# EAGLE library part SKAARDUINO_HEADER (library SKAARHOJ)
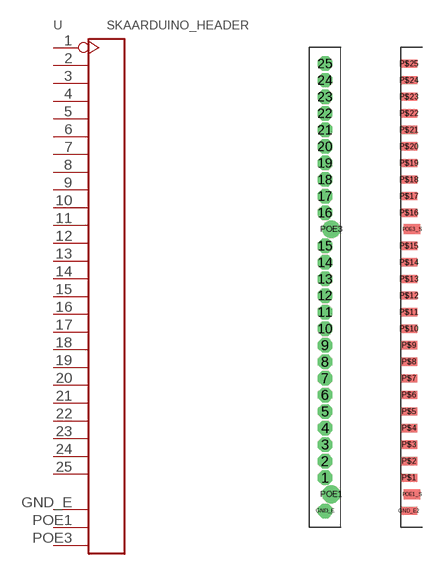
[diagram p60: symbol with the pads of SKAARDUINO_PTH_HEADER; footprints SKAARDUINO_PTH_HEADER, SKAARDUINO_SMD_HEADER]

Designator prefix -

## SKAARDUINO_HEADER  [SKAARDUINO_PTH_HEADER]
1  1
2  2
3  3
4  4
5  5
6  6
7  7
8  8
9  9
10  10
11  11
12  12
13  13
14  14
15  15
16  16
17  17
18  18
19  19
20  20
21  21
22  22
23  23
24  24
25  25
GND_E  26
POE1  27
POE3  28

## SKAARDUINO_HEADERSMD  [SKAARDUINO_SMD_HEADER]
GND_E2  26
P$1  1
P$2  2
P$3  3
P$4  4
P$5  5
P$6  6
P$7  7
P$8  8
P$9  9
P$10  10
P$11  11
P$12  12
P$13  13
P$14  14
P$15  15
P$16  16
P$17  17
P$18  18
P$19  19
P$20  20
P$21  21
P$22  22
P$23  23
P$24  24
P$25  25
POE1_S  27
POE3_S  28

## SKAARDUINO_HEADERPTH+SMD  [SKAARDUINO_PTH_SMD_HEADER]
1  1
2  2
3  3
4  4
5  5
6  6
7  7
8  8
9  9
10  10
11  11
12  12
13  13
14  14
15  15
16  16
17  17
18  18
19  19
20  20
21  21
22  22
23  23
24  24
25  25
GND_E  26
POE1_S  27
POE3_S  28

## SKAARDUINO_HEADERPTH+SMD2  [SKAARDUINO_PTH_SMD2_HEADER]
Pads as for SKAARDUINO_PTH_HEADER

## SKAARDUINO_HEADERPTH2  [SKAARDUINO_PTH_HEADER2]
Pads as for SKAARDUINO_PTH_HEADER

## Footprint SKAARDUINO_PTH_HEADER (pad centres in mm)
drill 0.6 pad 1.016 octagon: 1 -1.75,3.81; 2 -1.75,5.08; 3 -1.75,6.35; 4 -1.75,7.62; 5 -1.75,8.89; 6 -1.75,10.16; 7 -1.75,11.43; 8 -1.75,12.7; 9 -1.75,13.97; 10 -1.75,15.24; 11 -1.75,16.51; 12 -1.75,17.78; 13 -1.75,19.05; 14 -1.75,20.32; 15 -1.75,21.59; 16 -1.75,24.13; 17 -1.75,25.4; 18 -1.75,26.67; 19 -1.75,27.94; 20 -1.75,29.21; 21 -1.75,30.48; 22 -1.75,31.75; 23 -1.75,33.02; 24 -1.75,34.29; 25 -1.75,35.56; GND_E -1.75,1.27
drill 0.85 pad 1.116: POE1 -1.27,2.54; POE3 -1.27,22.86

## Footprint SKAARDUINO_SMD_HEADER (pad centres in mm)
smd 1.27 x 0.635: GND_E2 0.635,1.27; P$1 0.635,3.81; P$2 0.635,5.08; P$3 0.635,6.35; P$4 0.635,7.62; P$5 0.635,8.89; P$6 0.635,10.16; P$7 0.635,11.43; P$8 0.635,12.7; P$9 0.635,13.97; P$10 0.635,15.24; P$11 0.635,16.51; P$12 0.635,17.78; P$13 0.635,19.05; P$14 0.635,20.32; P$15 0.635,21.59; P$16 0.635,24.13; P$17 0.635,25.4; P$18 0.635,26.67; P$19 0.635,27.94; P$20 0.635,29.21; P$21 0.635,30.48; P$22 0.635,31.75; P$23 0.635,33.02; P$24 0.635,34.29; P$25 0.635,35.56
smd 1.27 x 0.762: POE1_S 0.889,2.54; POE3_S 0.889,22.86

## Footprint SKAARDUINO_PTH_SMD_HEADER (pad centres in mm)
drill 0.6 pad 1.016 octagon: 1 0.79,3.81; 2 0.79,5.08; 3 0.79,6.35; 4 0.79,7.62; 5 0.79,8.89; 6 0.79,10.16; 7 0.79,11.43; 8 0.79,12.7; 9 0.79,13.97; 10 0.79,15.24; 11 0.79,16.51; 12 0.79,17.78; 13 0.79,19.05; 14 0.79,20.32; 15 0.79,21.59; 16 0.79,24.13; 17 0.79,25.4; 18 0.79,26.67; 19 0.79,27.94; 20 0.79,29.21; 21 0.79,30.48; 22 0.79,31.75; 23 0.79,33.02; 24 0.79,34.29; 25 0.79,35.56; GND_E 0.79,1.27
smd 1.27 x 0.635: GND_E2 0.254,1.27; P$1 0.254,3.81; P$2 0.254,5.08; P$3 0.254,6.35; P$4 0.254,7.62; P$5 0.254,8.89; P$6 0.254,10.16; P$7 0.254,11.43; P$8 0.254,12.7; P$9 0.254,13.97; P$10 0.254,15.24; P$11 0.254,16.51; P$12 0.254,17.78; P$13 0.254,19.05; P$14 0.254,20.32; P$15 0.254,21.59; P$16 0.254,24.13; P$17 0.254,25.4; P$18 0.254,26.67; P$19 0.254,27.94; P$20 0.254,29.21; P$21 0.254,30.48; P$22 0.254,31.75; P$23 0.254,33.02; P$24 0.254,34.29; P$25 0.254,35.56; POE1_S 0.254,2.54; POE3_S 0.254,22.86

## Footprint SKAARDUINO_PTH_SMD2_HEADER (pad centres in mm)
drill 0.6 pad 1.016 octagon: 1 -1.25,3.81; 2 -1.25,5.08; 3 -1.25,6.35; 4 -1.25,7.62; 5 -1.25,8.89; 6 -1.25,10.16; 7 -1.25,11.43; 8 -1.25,12.7; 9 -1.25,13.97; 10 -1.25,15.24; 11 -1.25,16.51; 12 -1.25,17.78; 13 -1.25,19.05; 14 -1.25,20.32; 15 -1.25,21.59; 16 -1.25,24.13; 17 -1.25,25.4; 18 -1.25,26.67; 19 -1.25,27.94; 20 -1.25,29.21; 21 -1.25,30.48; 22 -1.25,31.75; 23 -1.25,33.02; 24 -1.25,34.29; 25 -1.25,35.56; GND_E -1.25,1.27
smd 2.2 x 0.635 bottom: P$1 -1.1,5.08; P$2 -1.1,6.35; P$4 -1.1,2.54; P$5 -1.1,1.27; P$6 -1.1,7.62; P$7 -1.1,8.89; P$8 -1.1,10.16; P$9 -1.1,11.43; P$10 -1.1,12.7; P$11 -1.1,13.97; P$12 -1.1,15.24; P$13 -1.1,16.51; P$14 -1.1,17.78; P$15 -1.1,19.05; P$16 -1.1,20.32; P$17 -1.1,21.59; P$18 -1.1,22.86; P$19 -1.1,24.13; P$20 -1.1,25.4; P$21 -1.1,26.67; P$22 -1.1,27.94; P$23 -1.1,29.21; P$24 -1.1,30.48; P$25 -1.1,31.75; P$26 -1.1,33.02; P$27 -1.1,34.29; P$28 -1.1,35.56; P$54 -1.1,3.81
smd 2.2 x 0.635: P$3 -1.1,3.81; P$29 -1.1,2.54; P$30 -1.1,1.27; P$31 -1.1,5.08; P$32 -1.1,6.35; P$33 -1.1,7.62; P$34 -1.1,8.89; P$35 -1.1,10.16; P$36 -1.1,11.43; P$37 -1.1,12.7; P$38 -1.1,13.97; P$39 -1.1,15.24; P$40 -1.1,16.51; P$41 -1.1,17.78; P$42 -1.1,19.05; P$43 -1.1,20.32; P$44 -1.1,21.59; P$45 -1.1,22.86; P$46 -1.1,24.13; P$47 -1.1,25.4; P$48 -1.1,26.67; P$49 -1.1,27.94; P$50 -1.1,29.21; P$51 -1.1,30.48; P$52 -1.1,31.75; P$53 -1.1,33.02; P$55 -1.1,34.29; P$56 -1.1,35.56
drill 0.6 pad 1.016 square: POE1 -1.25,2.54; POE3 -1.25,22.86

## Footprint SKAARDUINO_PTH_HEADER2 (pad centres in mm)
drill 0.6 pad 1.016 octagon: 1 -1.75,3.81; 2 -1.75,5.08; 3 -1.75,6.35; 4 -1.75,7.62; 5 -1.75,8.89; 6 -1.75,10.16; 7 -1.75,11.43; 8 -1.75,12.7; 9 -1.75,13.97; 10 -1.75,15.24; 11 -1.75,16.51; 12 -1.75,17.78; 13 -1.75,19.05; 14 -1.75,20.32; 15 -1.75,21.59; 16 -1.75,24.13; 17 -1.75,25.4; 18 -1.75,26.67; 19 -1.75,27.94; 20 -1.75,29.21; 21 -1.75,30.48; 22 -1.75,31.75; 23 -1.75,33.02; 24 -1.75,34.29; 25 -1.75,35.56; GND_E -1.75,1.27
drill 0.6 pad 1.016 square: POE1 -1.75,2.54; POE3 -1.75,22.86